# Altium integrated library ATMEGA8-16AU.IntLib: 1 symbol
Pins are listed as number, name and electrical type; pins without a type are passive.

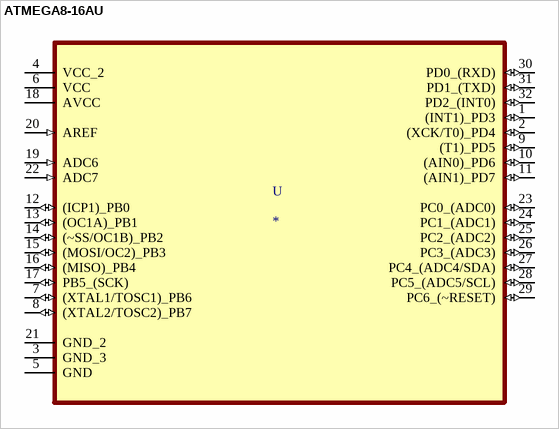
[diagram p0: symbol ATMEGA8-16AU]

## ATMEGA8-16AU
designator U
AVR AVRÂ® ATmega Microcontroller IC 8-Bit 16MHz 8KB _4K x 16_ FLASH 32-TQFP _7x7_; MF: Microchip Technology; MP: ATMEGA8-16AU; Package: TQFP-32 Microchip Technology; Value: *; Price: None; SnapEDA_Link: https://www.snapeda.com/parts/ATMEGA8-16AU/Microchip/view-part/4246640/?ref=snap; Availability: Unavailable
footprint QFP80P900X900X120-32N
pins: 1 (INT1)_PD3 (io), 2 (XCK/T0)_PD4 (io), 3 GND_3, 4 VCC_2 (power), 5 GND, 6 VCC (power), 7 (XTAL1/TOSC1)_PB6 (io), 8 (XTAL2/TOSC2)_PB7 (io), 9 (T1)_PD5 (io), 10 (AIN0)_PD6 (io), 11 (AIN1)_PD7 (io), 12 (ICP1)_PB0 (io), 13 (OC1A)_PB1 (io), 14 (~SS/OC1B)_PB2 (io), 15 (MOSI/OC2)_PB3 (io), 16 (MISO)_PB4 (io), 17 PB5_(SCK) (io), 18 AVCC (power), 19 ADC6 (in), 20 AREF (in), 21 GND_2, 22 ADC7 (in), 23 PC0_(ADC0) (io), 24 PC1_(ADC1) (io), 25 PC2_(ADC2) (io), 26 PC3_(ADC3) (io), 27 PC4_(ADC4/SDA) (io), 28 PC5_(ADC5/SCL) (io), 29 PC6_(~RESET) (io), 30 PD0_(RXD) (io), 31 PD1_(TXD) (io), 32 PD2_(INT0) (io)